# Altium schematic symbol library ChargerPowerSchematic2021.SchLib: 18 symbols
Pins are listed as number, name and electrical type; pins without a type are passive.

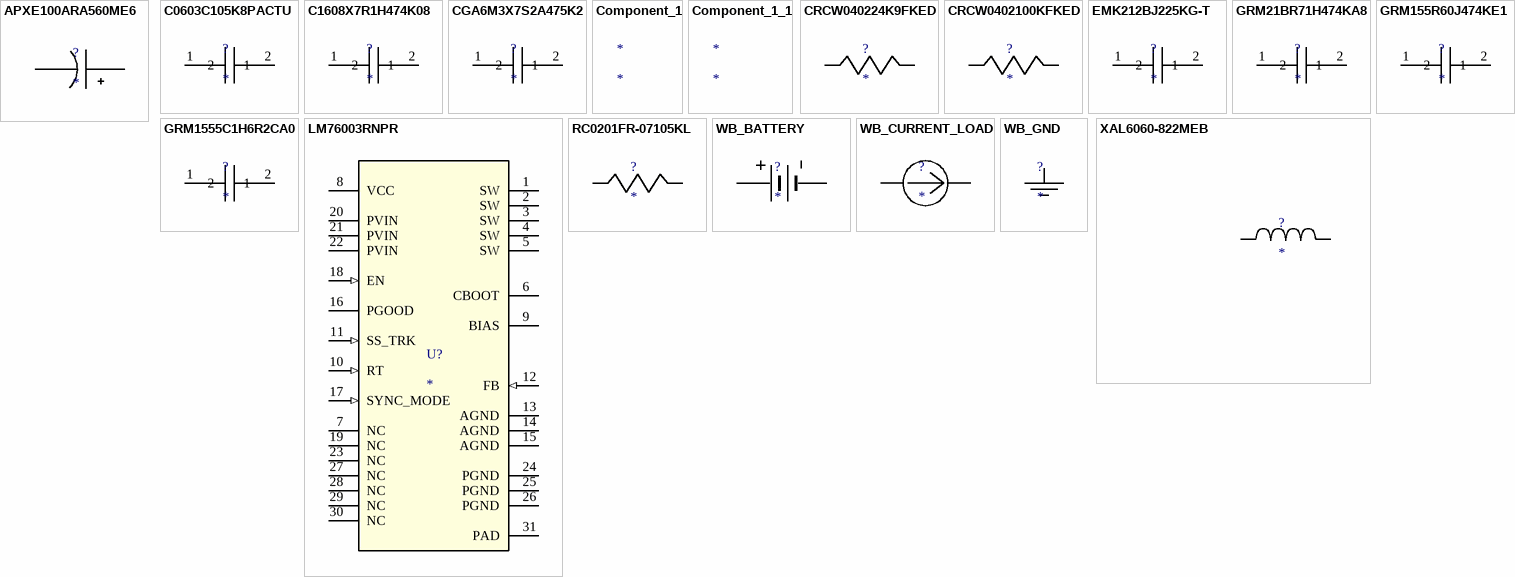
[diagram p0: symbols APXE100ARA560ME6 to XAL6060-822MEB]

## APXE100ARA560ME6
designator ?
Imported; Manufacturer_Part_Number: APXE100ARA560ME61G; Manufacturer_Name: Chemi-Con; Vendor: Nippon Chemi-Con; RefDes: RefDes; TYPE: TYPE; Value: Value
footprint CAPSMT_62_E61
pins: 1 +, 2 -

## C0603C105K8PACTU
designator ?
Imported; Manufacturer_Part_Number: C0603C105K8PACTU; Vendor: Kemet; Manufacturer_Name: Kemet; RefDes: RefDes; TYPE: TYPE; Value: Value
footprint 0603
pins: 1 2, 2 1

## C1608X7R1H474K08
designator ?
Imported; Manufacturer_Part_Number: C1608X7R1H474K080AC; Vendor: TDK; Manufacturer_Name: TDK; RefDes: RefDes; TYPE: TYPE; Value: Value
footprint 0603
pins: 1 2, 2 1

## CGA6M3X7S2A475K2
designator ?
Imported; Manufacturer_Part_Number: CGA6M3X7S2A475K200AB; Vendor: TDK; Manufacturer_Name: TDK; RefDes: RefDes; TYPE: TYPE; Value: Value
footprint 1210_220
pins: 1 2, 2 1

## Component_1
designator *

## Component_1_1
designator *

## CRCW040224K9FKED
designator ?
Imported; Manufacturer_Part_Number: CRCW040224K9FKED; Vendor: Vishay-Dale; Manufacturer_Name: Vishay-Dale; RefDes: RefDes; TYPE: TYPE; Value: Value
footprint 0402
pins: 1, 2

## CRCW0402100KFKED
designator ?
Imported; Manufacturer_Part_Number: CRCW0402100KFKED; Vendor: Vishay-Dale; Manufacturer_Name: Vishay-Dale; RefDes: RefDes; TYPE: TYPE; Value: Value
footprint 0402
pins: 1, 2

## EMK212BJ225KG-T
designator ?
Imported; Manufacturer_Part_Number: EMK212BJ225KG-T; Vendor: Taiyo Yuden; Manufacturer_Name: Taiyo Yuden; RefDes: RefDes; TYPE: TYPE; Value: Value
footprint 0805
pins: 1 2, 2 1

## GRM21BR71H474KA8
designator ?
Imported; Manufacturer_Part_Number: GRM21BR71H474KA88L; Vendor: MuRata; Manufacturer_Name: MuRata; RefDes: RefDes; TYPE: TYPE; Value: Value
footprint 0805
pins: 1 2, 2 1

## GRM155R60J474KE1
designator ?
Imported; Manufacturer_Part_Number: GRM155R60J474KE19D; Vendor: MuRata; Manufacturer_Name: MuRata; RefDes: RefDes; TYPE: TYPE; Value: Value
footprint 0402
pins: 1 2, 2 1

## GRM1555C1H6R2CA0
designator ?
Imported; Manufacturer_Part_Number: GRM1555C1H6R2CA01D; Vendor: MuRata; Manufacturer_Name: MuRata; RefDes: RefDes; TYPE: TYPE; Value: Value
footprint 0402
pins: 1 2, 2 1

## LM76003RNPR
designator U?
Imported; PartNumber: LM76003RNPR; Manufacturer: Texas Instruments; RefDes: RefDes; TYPE: TYPE; Value: Value; Manufacturer_Part_Number: LM76003RNPR; Manufacturer_Name: Texas Instruments
footprint RNP0030B
pins: 1 SW (power), 2 SW (power), 3 SW (power), 4 SW (power), 5 SW (power), 6 CBOOT (power), 7 NC, 8 VCC (power), 9 BIAS, 10 RT (in), 11 SS_TRK (in), 12 FB (in), 13 AGND (power), 14 AGND (power), 15 AGND (power), 16 PGOOD (oc), 17 SYNC_MODE (in), 18 EN (in), 19 NC, 20 PVIN (power), 21 PVIN (power), 22 PVIN (power), 23 NC, 24 PGND (power), 25 PGND (power), 26 PGND (power), 27 NC, 28 NC, 29 NC, 30 NC, 31 PAD (power)

## RC0201FR-07105KL
designator ?
Imported; Manufacturer_Part_Number: RC0201FR-07105KL; Manufacturer_Name: Yageo; Vendor: Yageo America; RefDes: RefDes; TYPE: TYPE; Value: Value
footprint 0201
pins: 1, 2

## WB_BATTERY
designator ?
Imported; Manufacturer_Part_Number: WB_BATTERY; PowerPortType: POWER_GROUND; Value: Value; Manufacturer_Name: WB_BATTERY; RefDes: RefDes; TYPE: TYPE
pins: 1 +, 2 -

## WB_CURRENT_LOAD
designator ?
Imported; Manufacturer_Part_Number: WB_CURRENT_LOAD; PowerPortType: POWER_GROUND; Value: Value; Manufacturer_Name: WB_CURRENT_LOAD; RefDes: RefDes; TYPE: TYPE
pins: 1 +, 2 -

## WB_GND
designator ?
Imported; Manufacturer_Part_Number: WB_GND; PowerPortType: POWER_GROUND; Value: Value; Manufacturer_Name: WB_GND; RefDes: RefDes; TYPE: TYPE
pins: 1

## XAL6060-822MEB
designator ?
Imported; Manufacturer_Part_Number: XAL6060-822MEB; Vendor: Coilcraft; Manufacturer_Name: Coilcraft; RefDes: RefDes; TYPE: TYPE; Value: Value
footprint XAL6060
pins: 1, 2